# EAGLE library part IC-MP26123 (library Raj)
Li Ion Battery Charger
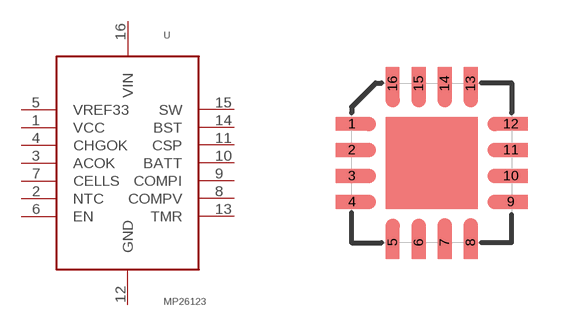
[diagram p0: symbol with the pads of QFN16; footprint QFN16]

Designator prefix U

## IC-MP26123  [QFN16]
1  VCC
2  NTC
3  ACOK
4  CHGOK
5  VREF33
6  EN
7  CELLS
8  COMPV
9  COMPI
10  BATT
11  CSP
12  GND
13  TMR
14  BST
15  SW
16  VIN

## Footprint QFN16 (pad centres in mm)
QFN16-4mm
smd 0.825 x 0.35: 1 -1.988,0.975; 2 -1.988,0.325; 3 -1.988,-0.325; 4 -1.988,-0.975; 9 1.988,-0.975; 10 1.988,-0.325; 11 1.988,0.325; 12 1.988,0.975
smd 0.35 x 0.825: 5 -0.975,-1.988; 6 -0.325,-1.988; 7 0.325,-1.988; 8 0.975,-1.988; 13 0.975,1.988; 14 0.325,1.988; 15 -0.325,1.988; 16 -0.975,1.988